# Altium integrated library FPGA.IntLib: 4 symbols
Pins are listed as number, name and electrical type; pins without a type are passive.

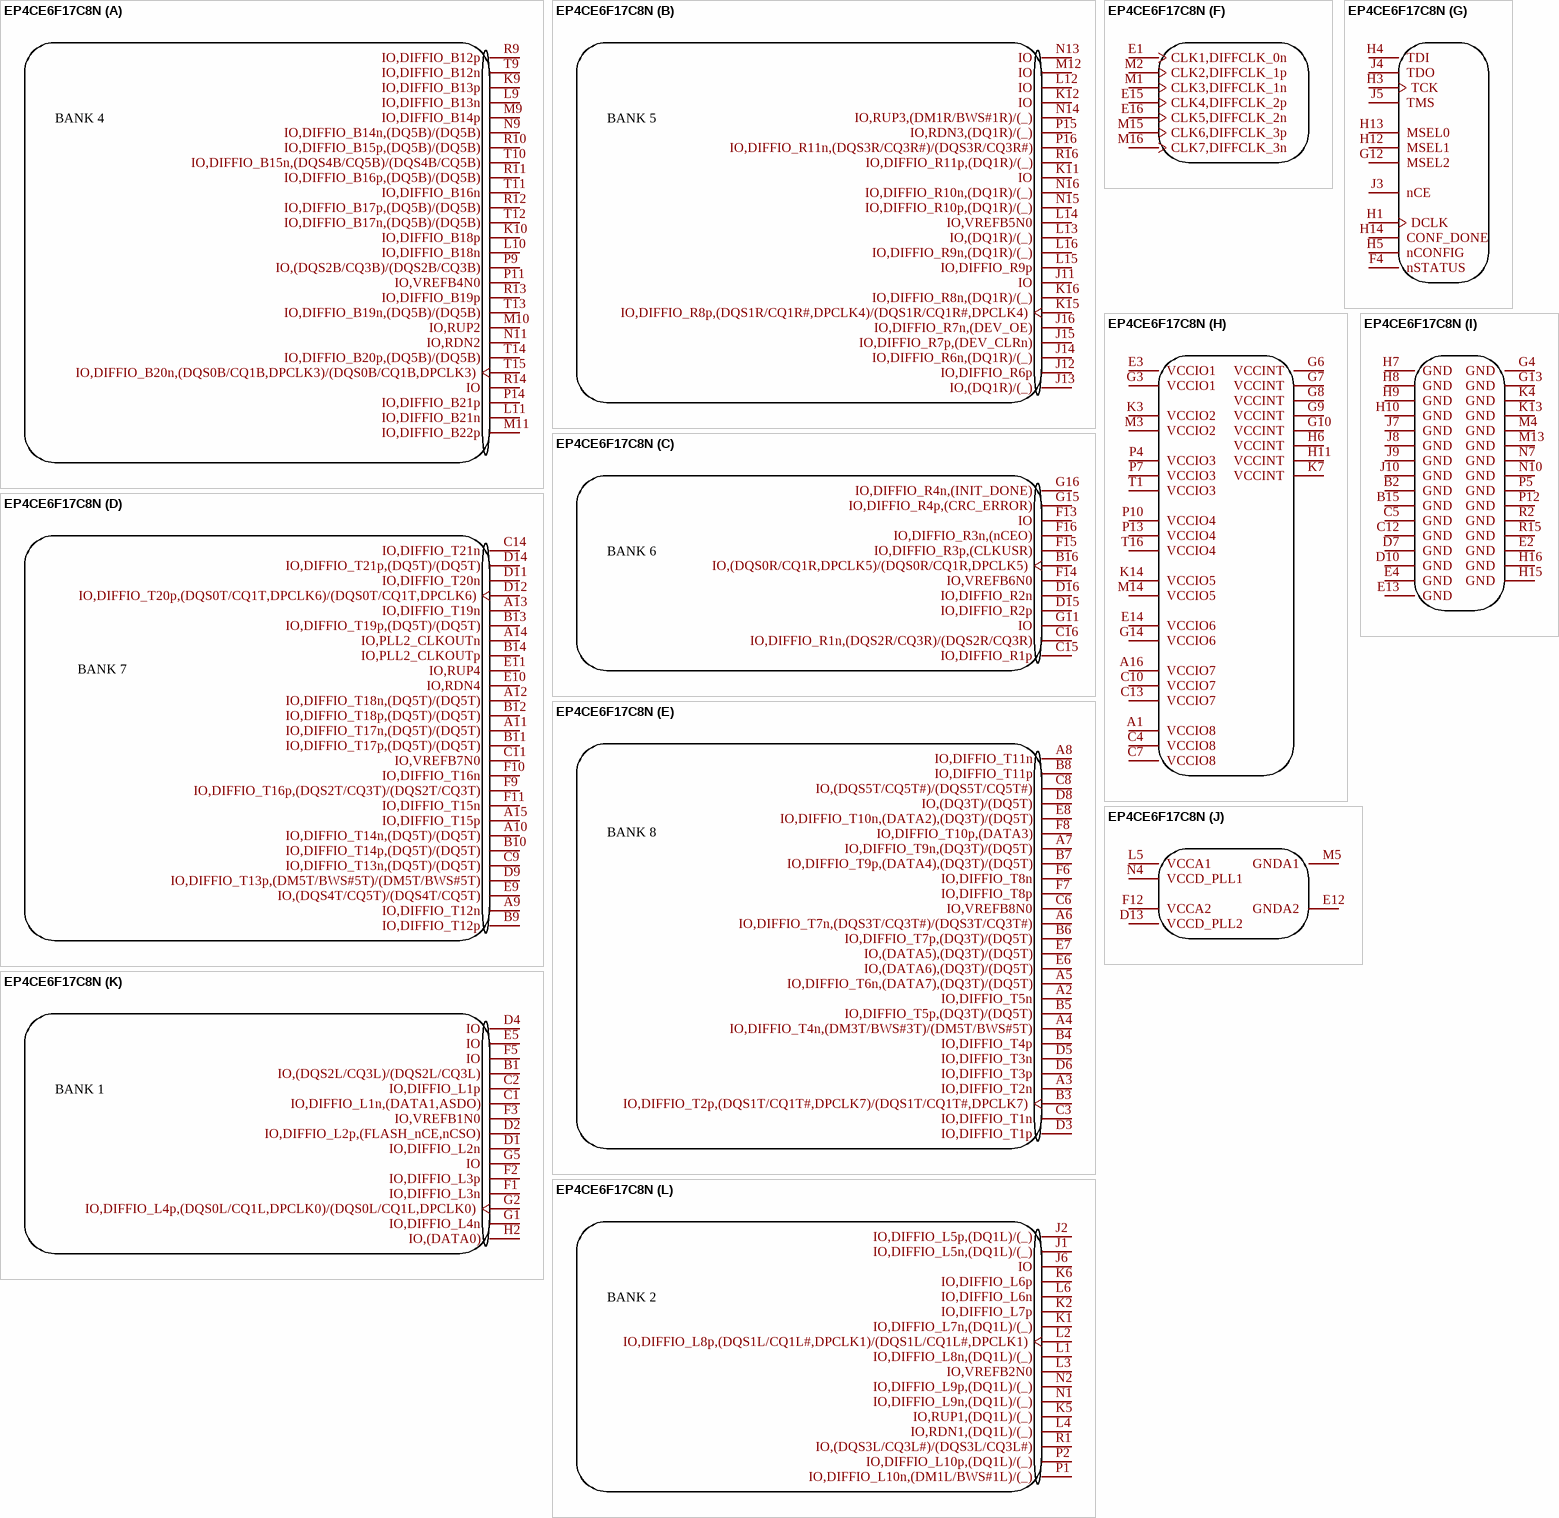
[diagram p0: symbol EP4CE6F17C8N]

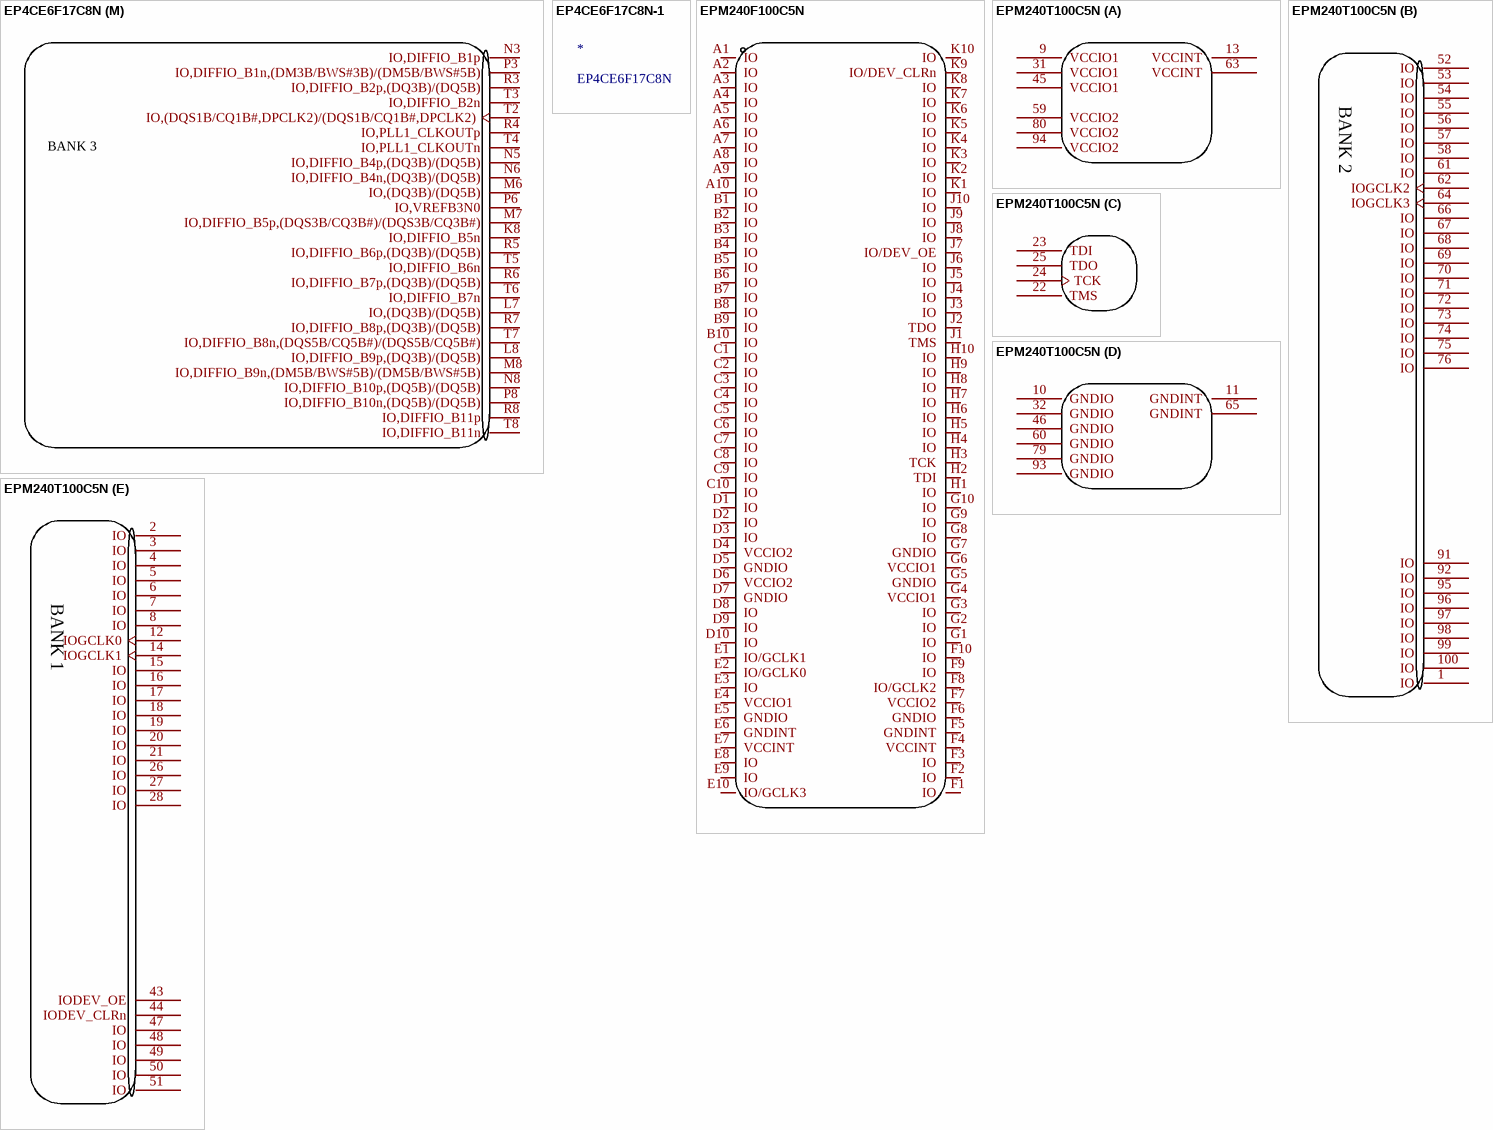
[diagram p1: symbols EP4CE6F17C8N to EPM240T100C5N]

## EP4CE6F17C8N
designator ?  (value not drawn)
Designer: U?; Symbol: EP4CE6F17C8N; Device: EP4CE6F17C8N
footprint EP4CE10F17C8N
part A pins: K9 IO,DIFFIO_B13p, K10 IO,DIFFIO_B18p, L9 IO,DIFFIO_B13n, L10 IO,DIFFIO_B18n, L11 IO,DIFFIO_B21n, M9 IO,DIFFIO_B14p, M10 IO,RUP2, M11 IO,DIFFIO_B22p, N9 IO,DIFFIO_B14n,(DQ5B)/(DQ5B), N11 IO,RDN2, N12 IO,DIFFIO_B22n hidden, P9 IO,(DQS2B/CQ3B)/(DQS2B/CQ3B), P11 IO,VREFB4N0, P14 IO,DIFFIO_B21p, R9 IO,DIFFIO_B12p, R10 IO,DIFFIO_B15p,(DQ5B)/(DQ5B), R11 IO,DIFFIO_B16p,(DQ5B)/(DQ5B), R12 IO,DIFFIO_B17p,(DQ5B)/(DQ5B), R13 IO,DIFFIO_B19p, R14 IO, T9 IO,DIFFIO_B12n, T10 IO,DIFFIO_B15n,(DQS4B/CQ5B)/(DQS4B/CQ5B), T11 IO,DIFFIO_B16n, T12 IO,DIFFIO_B17n,(DQ5B)/(DQ5B), T13 IO,DIFFIO_B19n,(DQ5B)/(DQ5B), T14 IO,DIFFIO_B20p,(DQ5B)/(DQ5B), T15 IO,DIFFIO_B20n,(DQS0B/CQ1B,DPCLK3)/(DQS0B/CQ1B,DPCLK3)
part B pins: J11 IO, J12 IO,DIFFIO_R6p, J13 IO,(DQ1R)/(_), J14 IO,DIFFIO_R6n,(DQ1R)/(_), J15 IO,DIFFIO_R7p,(DEV_CLRn), J16 IO,DIFFIO_R7n,(DEV_OE), K11 IO, K12 IO, K15 IO,DIFFIO_R8p,(DQS1R/CQ1R#,DPCLK4)/(DQS1R/CQ1R#,DPCLK4), K16 IO,DIFFIO_R8n,(DQ1R)/(_), L12 IO, L13 IO,(DQ1R)/(_), L14 IO,VREFB5N0, L15 IO,DIFFIO_R9p, L16 IO,DIFFIO_R9n,(DQ1R)/(_), M12 IO, N13 IO, N14 IO,RUP3,(DM1R/BWS#1R)/(_), N15 IO,DIFFIO_R10p,(DQ1R)/(_), N16 IO,DIFFIO_R10n,(DQ1R)/(_), P15 IO,RDN3,(DQ1R)/(_), P16 IO,DIFFIO_R11n,(DQS3R/CQ3R#)/(DQS3R/CQ3R#), R16 IO,DIFFIO_R11p,(DQ1R)/(_)
part C pins: B16 IO,(DQS0R/CQ1R,DPCLK5)/(DQS0R/CQ1R,DPCLK5), C15 IO,DIFFIO_R1p, C16 IO,DIFFIO_R1n,(DQS2R/CQ3R)/(DQS2R/CQ3R), D15 IO,DIFFIO_R2p, D16 IO,DIFFIO_R2n, F13 IO, F14 IO,VREFB6N0, F15 IO,DIFFIO_R3p,(CLKUSR), F16 IO,DIFFIO_R3n,(nCEO), G11 IO, G15 IO,DIFFIO_R4p,(CRC_ERROR), G16 IO,DIFFIO_R4n,(INIT_DONE)
part D pins: A9 IO,DIFFIO_T12n, A10 IO,DIFFIO_T14n,(DQ5T)/(DQ5T), A11 IO,DIFFIO_T17n,(DQ5T)/(DQ5T), A12 IO,DIFFIO_T18n,(DQ5T)/(DQ5T), A13 IO,DIFFIO_T19n, A14 IO,PLL2_CLKOUTn, A15 IO,DIFFIO_T15p, B9 IO,DIFFIO_T12p, B10 IO,DIFFIO_T14p,(DQ5T)/(DQ5T), B11 IO,DIFFIO_T17p,(DQ5T)/(DQ5T), B12 IO,DIFFIO_T18p,(DQ5T)/(DQ5T), B13 IO,DIFFIO_T19p,(DQ5T)/(DQ5T), B14 IO,PLL2_CLKOUTp, C9 IO,DIFFIO_T13n,(DQ5T)/(DQ5T), C11 IO,VREFB7N0, C14 IO,DIFFIO_T21n, D9 IO,DIFFIO_T13p,(DM5T/BWS#5T)/(DM5T/BWS#5T), D11 IO,DIFFIO_T20n, D12 IO,DIFFIO_T20p,(DQS0T/CQ1T,DPCLK6)/(DQS0T/CQ1T,DPCLK6), D14 IO,DIFFIO_T21p,(DQ5T)/(DQ5T), E9 IO,(DQS4T/CQ5T)/(DQS4T/CQ5T), E10 IO,RDN4, E11 IO,RUP4, F9 IO,DIFFIO_T16p,(DQS2T/CQ3T)/(DQS2T/CQ3T), F10 IO,DIFFIO_T16n, F11 IO,DIFFIO_T15n
part E pins: A2 IO,DIFFIO_T5n, A3 IO,DIFFIO_T2n, A4 IO,DIFFIO_T4n,(DM3T/BWS#3T)/(DM5T/BWS#5T), A5 IO,DIFFIO_T6n,(DATA7),(DQ3T)/(DQ5T), A6 IO,DIFFIO_T7n,(DQS3T/CQ3T#)/(DQS3T/CQ3T#), A7 IO,DIFFIO_T9n,(DQ3T)/(DQ5T), A8 IO,DIFFIO_T11n, B3 IO,DIFFIO_T2p,(DQS1T/CQ1T#,DPCLK7)/(DQS1T/CQ1T#,DPCLK7), B4 IO,DIFFIO_T4p, B5 IO,DIFFIO_T5p,(DQ3T)/(DQ5T), B6 IO,DIFFIO_T7p,(DQ3T)/(DQ5T), B7 IO,DIFFIO_T9p,(DATA4),(DQ3T)/(DQ5T), B8 IO,DIFFIO_T11p, C3 IO,DIFFIO_T1n, C6 IO,VREFB8N0, C8 IO,(DQS5T/CQ5T#)/(DQS5T/CQ5T#), D3 IO,DIFFIO_T1p, D5 IO,DIFFIO_T3n, D6 IO,DIFFIO_T3p, D8 IO,(DQ3T)/(DQ5T), E6 IO,(DATA6),(DQ3T)/(DQ5T), E7 IO,(DATA5),(DQ3T)/(DQ5T), E8 IO,DIFFIO_T10n,(DATA2),(DQ3T)/(DQ5T), F6 IO,DIFFIO_T8n, F7 IO,DIFFIO_T8p, F8 IO,DIFFIO_T10p,(DATA3)
part F pins: E1 CLK1,DIFFCLK_0n, E15 CLK4,DIFFCLK_2p, E16 CLK5,DIFFCLK_2n, M1 CLK3,DIFFCLK_1n, M2 CLK2,DIFFCLK_1p, M15 CLK6,DIFFCLK_3p, M16 CLK7,DIFFCLK_3n
part G pins: F4 nSTATUS, G12 MSEL2, H1 DCLK, H3 TCK, H4 TDI, H5 nCONFIG, H12 MSEL1, H13 MSEL0, H14 CONF_DONE, J3 nCE, J4 TDO, J5 TMS
part H pins: A1 VCCIO8, A16 VCCIO7, C4 VCCIO8, C7 VCCIO8, C10 VCCIO7, C13 VCCIO7, E3 VCCIO1, E14 VCCIO6, G3 VCCIO1, G6 VCCINT, G7 VCCINT, G8 VCCINT, G9 VCCINT, G10 VCCINT, G14 VCCIO6, H6 VCCINT, H11 VCCINT, K3 VCCIO2, K7 VCCINT, K14 VCCIO5, M3 VCCIO2, M14 VCCIO5, P4 VCCIO3, P7 VCCIO3, P10 VCCIO4, P13 VCCIO4, T1 VCCIO3, T16 VCCIO4
part I pins: B2 GND, B15 GND, C5 GND, C12 GND, D7 GND, D10 GND, E2 GND, E4 GND, E13 GND, G4 GND, G13 GND, H7 GND, H8 GND, H9 GND, H10 GND, H15 GND, H16 GND, J7 GND, J8 GND, J9 GND, J10 GND, K4 GND, K13 GND, M4 GND, M13 GND, N7 GND, N10 GND, P5 GND, P12 GND, R2 GND, R15 GND
part J pins: D13 VCCD_PLL2, E12 GNDA2, F12 VCCA2, L5 VCCA1, M5 GNDA1, N4 VCCD_PLL1
part K pins: B1 IO,(DQS2L/CQ3L)/(DQS2L/CQ3L), C1 IO,DIFFIO_L1n,(DATA1,ASDO), C2 IO,DIFFIO_L1p, D1 IO,DIFFIO_L2n, D2 IO,DIFFIO_L2p,(FLASH_nCE,nCSO), D4 IO, E5 IO, F1 IO,DIFFIO_L3n, F2 IO,DIFFIO_L3p, F3 IO,VREFB1N0, F5 IO, G1 IO,DIFFIO_L4n, G2 IO,DIFFIO_L4p,(DQS0L/CQ1L,DPCLK0)/(DQS0L/CQ1L,DPCLK0), G5 IO, H2 IO,(DATA0)
part L pins: J1 IO,DIFFIO_L5n,(DQ1L)/(_), J2 IO,DIFFIO_L5p,(DQ1L)/(_), J6 IO, K1 IO,DIFFIO_L7n,(DQ1L)/(_), K2 IO,DIFFIO_L7p, K5 IO,RUP1,(DQ1L)/(_), K6 IO,DIFFIO_L6p, L1 IO,DIFFIO_L8n,(DQ1L)/(_), L2 IO,DIFFIO_L8p,(DQS1L/CQ1L#,DPCLK1)/(DQS1L/CQ1L#,DPCLK1), L3 IO,VREFB2N0, L4 IO,RDN1,(DQ1L)/(_), L6 IO,DIFFIO_L6n, N1 IO,DIFFIO_L9n,(DQ1L)/(_), N2 IO,DIFFIO_L9p,(DQ1L)/(_), P1 IO,DIFFIO_L10n,(DM1L/BWS#1L)/(_), P2 IO,DIFFIO_L10p,(DQ1L)/(_), R1 IO,(DQS3L/CQ3L#)/(DQS3L/CQ3L#)
part M pins: K8 IO,DIFFIO_B5n, L7 IO,(DQ3B)/(DQ5B), L8 IO,DIFFIO_B9p,(DQ3B)/(DQ5B), M6 IO,(DQ3B)/(DQ5B), M7 IO,DIFFIO_B5p,(DQS3B/CQ3B#)/(DQS3B/CQ3B#), M8 IO,DIFFIO_B9n,(DM5B/BWS#5B)/(DM5B/BWS#5B), N3 IO,DIFFIO_B1p, N5 IO,DIFFIO_B4p,(DQ3B)/(DQ5B), N6 IO,DIFFIO_B4n,(DQ3B)/(DQ5B), N8 IO,DIFFIO_B10p,(DQ5B)/(DQ5B), P3 IO,DIFFIO_B1n,(DM3B/BWS#3B)/(DM5B/BWS#5B), P6 IO,VREFB3N0, P8 IO,DIFFIO_B10n,(DQ5B)/(DQ5B), R3 IO,DIFFIO_B2p,(DQ3B)/(DQ5B), R4 IO,PLL1_CLKOUTp, R5 IO,DIFFIO_B6p,(DQ3B)/(DQ5B), R6 IO,DIFFIO_B7p,(DQ3B)/(DQ5B), R7 IO,DIFFIO_B8p,(DQ3B)/(DQ5B), R8 IO,DIFFIO_B11p, T2 IO,(DQS1B/CQ1B#,DPCLK2)/(DQS1B/CQ1B#,DPCLK2), T3 IO,DIFFIO_B2n, T4 IO,PLL1_CLKOUTn, T5 IO,DIFFIO_B6n, T6 IO,DIFFIO_B7n, T7 IO,DIFFIO_B8n,(DQS5B/CQ5B#)/(DQS5B/CQ5B#), T8 IO,DIFFIO_B11n
part A text: BANK 4
part B text: BANK 5
part C text: BANK 6
part D text: BANK 7
part E text: BANK 8
part K text: BANK 1
part L text: BANK 2
part M text: BANK 3

## EP4CE6F17C8N-1
designator *, comment EP4CE6F17C8N

## EPM240F100C5N
designator ?  (value not drawn)
Symbol: EPM240F100I5N; Designer: U?; Device: EPM240F100I5N
footprint BGA-100_L11.0-W11.0-R10-C10-P1.00-TL
pins: A1 IO, A2 IO, A3 IO, A4 IO, A5 IO, A6 IO, A7 IO, A8 IO, A9 IO, A10 IO, B1 IO, B2 IO, B3 IO, B4 IO, B5 IO, B6 IO, B7 IO, B8 IO, B9 IO, B10 IO, C1 IO, C2 IO, C3 IO, C4 IO, C5 IO, C6 IO, C7 IO, C8 IO, C9 IO, C10 IO, D1 IO, D2 IO, D3 IO, D4 VCCIO2, D5 GNDIO, D6 VCCIO2, D7 GNDIO, D8 IO, D9 IO, D10 IO, E1 IO/GCLK1, E2 IO/GCLK0, E3 IO, E4 VCCIO1, E5 GNDIO, E6 GNDINT, E7 VCCINT, E8 IO, E9 IO, E10 IO/GCLK3, F1 IO, F2 IO, F3 IO, F4 VCCINT, F5 GNDINT, F6 GNDIO, F7 VCCIO2, F8 IO/GCLK2, F9 IO, F10 IO, G1 IO, G2 IO, G3 IO, G4 VCCIO1, G5 GNDIO, G6 VCCIO1, G7 GNDIO, G8 IO, G9 IO, G10 IO, H1 IO, H2 TDI, H3 TCK, H4 IO, H5 IO, H6 IO, H7 IO, H8 IO, H9 IO, H10 IO, J1 TMS, J2 TDO, J3 IO, J4 IO, J5 IO, J6 IO, J7 IO/DEV_OE, J8 IO, J9 IO, J10 IO, K1 IO, K2 IO, K3 IO, K4 IO, K5 IO, K6 IO, K7 IO, K8 IO, K9 IO/DEV_CLRn, K10 IO

## EPM240T100C5N
designator U?  (value not drawn)
Manufacturer: Intel/Altera; Add into BOM: yes; Name: EPM240T100C5N; Symbol: EPM240T100C5N; Device: EPM240T100C5N; LCSC Part Name: EPM240T100C5N; Supplier Part: C10041; Manufacturer Part: EPM240T100C5N; Supplier Footprint: TQFP-100_14x14x05P; JLCPCB Part Class: Extended Part; Datasheet: https://atta.szlcsc.com/upload/public/pdf/source/20121123/1457706563274.pdf; Supplier: LCSC; Convert to PCB: yes
footprint TQFP-100_L14.0-W14.0-P0.50-LS16.0-BL
part A pins: 9 VCCIO1, 13 VCCINT, 31 VCCIO1, 45 VCCIO1, 59 VCCIO2, 63 VCCINT, 80 VCCIO2, 94 VCCIO2
part B pins: 1 IO, 52 IO, 53 IO, 54 IO, 55 IO, 56 IO, 57 IO, 58 IO, 61 IO, 62 IOGCLK2, 64 IOGCLK3, 66 IO, 67 IO, 68 IO, 69 IO, 70 IO, 71 IO, 72 IO, 73 IO, 74 IO, 75 IO, 76 IO, 77 IO hidden, 78 IO hidden, 81 IO hidden, 82 IO hidden, 83 IO hidden, 84 IO hidden, 85 IO hidden, 86 IO hidden, 87 IO hidden, 88 IO hidden, 89 IO hidden, 90 IO hidden, 91 IO, 92 IO, 95 IO, 96 IO, 97 IO, 98 IO, 99 IO, 100 IO
part C pins: 22 TMS, 23 TDI, 24 TCK, 25 TDO
part D pins: 10 GNDIO, 11 GNDINT, 32 GNDIO, 46 GNDIO, 60 GNDIO, 65 GNDINT, 79 GNDIO, 93 GNDIO
part E pins: 2 IO, 3 IO, 4 IO, 5 IO, 6 IO, 7 IO, 8 IO, 12 IOGCLK0, 14 IOGCLK1, 15 IO, 16 IO, 17 IO, 18 IO, 19 IO, 20 IO, 21 IO, 26 IO, 27 IO, 28 IO, 29 IO hidden, 30 IO hidden, 33 IO hidden, 34 IO hidden, 35 IO hidden, 36 IO hidden, 37 IO hidden, 38 IO hidden, 39 IO hidden, 40 IO hidden, 41 IO hidden, 42 IO hidden, 43 IODEV_OE, 44 IODEV_CLRn, 47 IO, 48 IO, 49 IO, 50 IO, 51 IO
part B text: BANK 2
part E text: BANK 1